# EAGLE library part MCP2515-I_P (library MCP2515-I_P)
Stand-Alone CAN Controller Source: Datasheet <http://uk.rs-online.com/web/p/products/6283532>
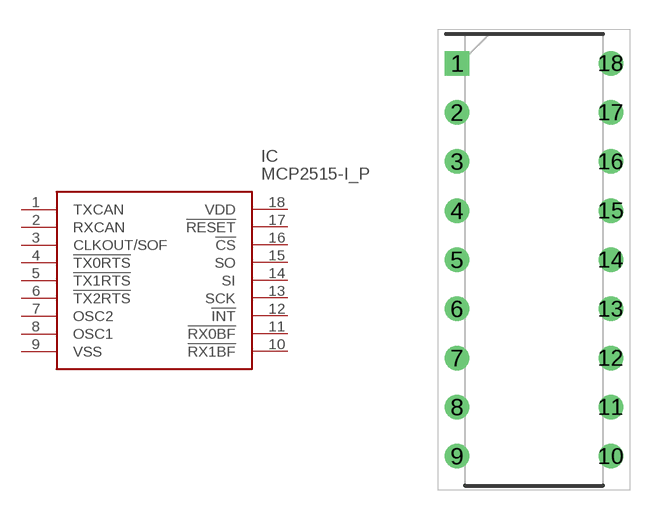
[diagram p0: symbol with the pads of DIP794W56P254L2286H533Q18N; footprint DIP794W56P254L2286H533Q18N]

Designator prefix IC

## MCP2515-I_P (Allied_Number: 70045398; Description: Stand-Alone CAN Controller; Height: 5.334mm; Manufacturer_Name: Microchip; Manufacturer_Part_Number: MCP2515-I/P; RS_Part_Number: 6283532; RS_Price-Stock: http://uk.rs-online.com/web/p/products/6283532)  [DIP794W56P254L2286H533Q18N]
1  TXCAN
2  RXCAN
3  CLKOUT/SOF
4  !TX0RTS
5  !TX1RTS
6  !TX2RTS
7  OSC2
8  OSC1
9  VSS
10  !RX1BF
11  !RX0BF
12  !INT
13  SCK
14  SI
15  SO
16  !CS
17  !RESET
18  VDD

## Footprint DIP794W56P254L2286H533Q18N (pad centres in mm)
MCP2515-I/P
drill 0.759 pad 1.159 square: 1 -3.969,10.16
drill 0.759 pad 1.159: 2 -3.969,7.62; 3 -3.969,5.08; 4 -3.969,2.54; 5 -3.969,0; 6 -3.969,-2.54; 7 -3.969,-5.08; 8 -3.969,-7.62; 9 -3.969,-10.16; 10 3.969,-10.16; 11 3.969,-7.62; 12 3.969,-5.08; 13 3.969,-2.54; 14 3.969,0; 15 3.969,2.54; 16 3.969,5.08; 17 3.969,7.62; 18 3.969,10.16